# EAGLE library part 68800811722 (library Wire-to-Board (rev18a))
WR-WTB 2.50mm "J"Type Male Horizontal Shrouded Header, 8 Pins=>Code : WTB_2.50-J_PCB_THT_68800811722 <http://katalog.we-online.de/media/thumbs2/eican/thb_Con_WTB_2.50-J_PCB_THT_6880xx11722_pf2%20(2).jpg> Details see: http://katalog.we-online.de/en/em/WTB_2_50_J_TYPE_HORIZONTAL_MALE_SHROUDED_HEADER_6880XX11722 Created 2014-06-05, Karrer Zheng 2014 (C) Würth Elektronik
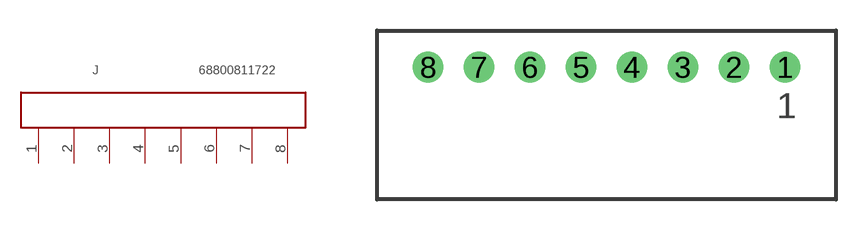
[diagram p20: symbol with the pads of 68800811722; footprint 68800811722]

Designator prefix J

## 68800811722  [68800811722]
1  8  pas
2  7  pas
3  6  pas
4  5  pas
5  4  pas
6  3  pas
7  2  pas
8  1  pas

## Footprint 68800811722 (pad centres in mm)
WR-WTB 2.50mm "J" Type Male Horizontal Shrouded Header, 8 Pins
drill 1: 1 8.75,2.35; 2 6.25,2.35; 3 3.75,2.35; 4 1.25,2.35; 5 -1.25,2.35; 6 -3.75,2.35; 7 -6.25,2.35; 8 -8.75,2.35